# Altium footprint library Inductors.PcbLib: 39 footprints (part 1 of 3)
Each footprint in its own frame and in the unit in brackets; x right, y up, seen from the top. Pads: shape width x height; smd on the part's side, far side on the other; paste and mask are expansions set on the pad; w line width, h text height; cw(c..) or ccw(c..) is an arc to the next point about the centre after c.
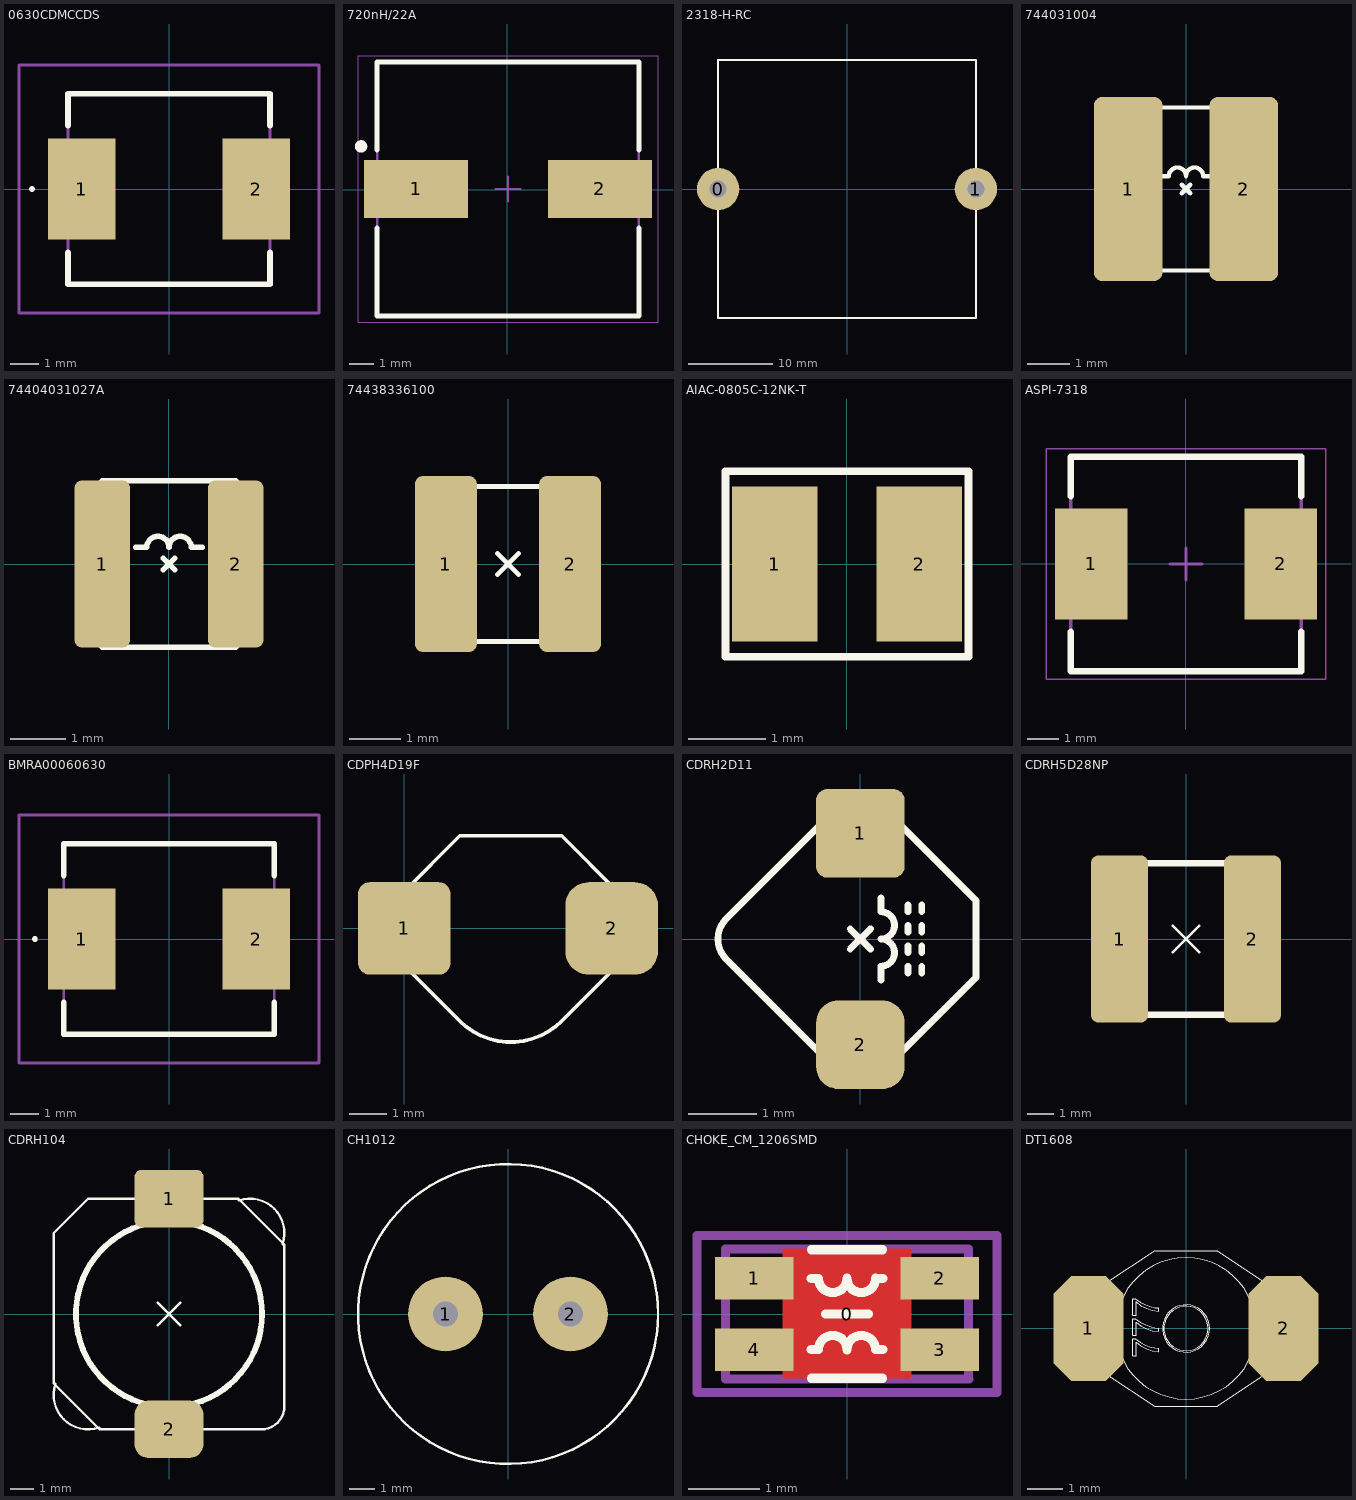
[diagram p0: the footprints below, top view; thin cyan lines are the x and y axes]

## 0630CDMCCDS [mm]
pads (2):
  rect 2.35x3.5 smd: 1(-3.025,0) 2(3.025,0)
Top Overlay:
  lines w0.1: -4.8,0 cw(c-4.75,0) -4.7,0 cw(c-4.75,0) -4.8,0
  lines w0.2: -3.5,-2.2 -3.5,-3.3 3.5,-3.3 3.5,-2.2 ; -3.5,2.2 -3.5,3.3 3.5,3.3 3.5,2.2
Mechanical 13:
  lines w0.1: -3.5,-3.3 -3.5,3.3 3.5,3.3 3.5,-3.3 -3.5,-3.3
Mechanical 15:
  lines w0.1: -5.2,-4.3 -5.2,4.3 5.2,4.3 5.2,-4.3 -5.2,-4.3
3D body "0630CDMCCDS-R24MC.stp": height 3.1, standoff 0, extent -3.965,-3.3 3.965,3.3

## 720nH/22A [mm]
pads (2):
  rect 4.2x2.35 smd: 1(-3.704,0.029) 2(3.746,0.029)
Top Overlay:
  circle w0.25: c-5.929,1.754 r0.125
  lines w0.2: -5.279,-1.546 -5.279,-5.121 5.321,-5.121 5.321,-1.546 ; -5.279,1.604 -5.279,5.179 5.321,5.179 5.321,1.604
Mechanical 13:
  lines w0.1: -5.279,-5.121 -5.279,5.179 5.321,5.179 5.321,-5.121 -5.279,-5.121
Mechanical 15:
  lines w0.05: -6.054,-5.371 -6.054,5.429 6.096,5.429 6.096,-5.371 -6.054,-5.371
  lines w0.1: -0.479,0.029 0.521,0.029 ; 0.021,-0.471 0.021,0.529
3D body "DIOM106102X48N.step": height 4.8, standoff 0, extent -5.499,-5.121 5.541,5.179

## 2318-H-RC [mm] "Fixed Inductors 330uH 15% Horizontal"
pads (2):
  round 5 hole 2: 0(-15.24,0) 1(15.24,0)
Top Overlay:
  lines w0.254: -15.24,-15.24 15.24,-15.24 15.24,15.24 -15.24,15.24 -15.24,-15.24
3D body "2318-H-RC.stp": height 10.7, standoff -17.29, extent -15.392,-15.392 15.393,15.393

## 744031004 [mm]
height 1.65
pads (2):
  rrect25% 1.6x4.3 smd: 1(-1.35,0) 2(1.35,0)
Top Overlay:
  lines w0.1: -0.6,0.3 -0.4,0.3 cw(c-0.2,0.3) 0,0.3 cw(c0.2,0.3) 0.4,0.3 0.6,0.3 ; -0.1,-0.1 0.1,0.1 ; -0.1,0.1 0.1,-0.1 ; -1.9,-1.6 -1.6,-1.9 1.6,-1.9 1.9,-1.6 1.9,1.6 1.6,1.9 -1.6,1.9 -1.9,1.6 -1.9,-1.6
3D body "744031001_Download_STP_WE-TPC-3816_rev1.stp": height 1.65, standoff 0, extent -1.9,-1.9 1.9,1.9

## 74404031027A [mm] "FIXED IND 2.7UH 1.85A 80 MOHM"
height 1.2
pads (2):
  rrect25% 1x3 smd: 1(-1.2,0) 2(1.2,0)
Top Overlay:
  lines w0.1: -0.6,0.3 -0.4,0.3 cw(c-0.2,0.3) 0,0.3 cw(c0.2,0.3) 0.4,0.3 0.6,0.3 ; -0.1,-0.1 0.1,0.1 ; -0.1,0.1 0.1,-0.1 ; -1.5,-1.2 -1.2,-1.5 1.2,-1.5 1.5,-1.2 1.5,1.2 1.2,1.5 -1.2,1.5 -1.5,1.2 -1.5,-1.2
3D body "70255656.stp": height 1, standoff 0, extent -1.501,-1.5 1.501,1.5

## 74438336100 [mm]
height 2
pads (2):
  rrect25% 1.2x3.4 smd: 1(-1.2,0) 2(1.2,0)
Top Overlay:
  lines w0.1: -0.2,-0.2 0.2,0.2 ; -0.2,0.2 0.2,-0.2 ; -1.5,-1.5 1.5,-1.5 1.5,1.5 -1.5,1.5 -1.5,-1.5
Mechanical 13:
  lines w0.076: -1.75,-1.35 -1.75,1.35 ; 1.75,-1.35 1.75,1.35
3D body "INDC3225X250N.STEP": height 2.7, standoff 0, extent -1.7,-1.35 1.7,1.35

## AIAC-0805C-12NK-T [mm] "FIXED IND 12NH 900MA 6.3 MOHM"
pads (2):
  rect 1.1x2 smd: 1(-0.93,0) 2(0.93,0)
Top Overlay:
  lines w0.1: -1.562,-1.194 1.562,-1.194 1.562,1.194 -1.562,1.194 -1.562,-1.194
3D body "AIAC-0805C.STEP": height 2.05, standoff -0.05, extent -1.385,-1.098 1.365,1.1

## ASPI-7318 [mm] "Molded Inductor, 2-Leads, Body 7,25x6,75mm, IPC Medium Density"
height 3
pads (2):
  rect 2.3x3.5 smd: 1(-3,0) 2(3,0)
Top Overlay:
  lines w0.2: -3.65,-2.15 -3.65,-3.4 3.65,-3.4 3.65,-2.15 ; -3.65,2.15 -3.65,3.4 3.65,3.4 3.65,2.15
Mechanical 13:
  lines w0.1: -3.65,-3.4 -3.65,3.4 3.65,3.4 3.65,-3.4 -3.65,-3.4
Mechanical 15:
  lines w0.05: -4.425,-3.65 -4.425,3.65 4.425,3.65 4.425,-3.65 -4.425,-3.65
  lines w0.1: -0.5,0 0.5,0 ; 0,-0.5 0,0.5
3D body "INDM7268X30N.step": height 3, standoff 0, extent -3.87,-3.4 3.87,3.4

## BMRA00060630 [mm] "BMRA00060630"
pads (2):
  rect 2.35x3.5 smd: 1(-3.025,0) 2(3.025,0)
Top Overlay:
  lines w0.1: -4.7,0 cw(c-4.65,0) -4.6,0 cw(c-4.65,0) -4.7,0
  lines w0.2: -3.65,-2.2 -3.65,-3.3 3.65,-3.3 3.65,-2.2 ; -3.65,2.2 -3.65,3.3 3.65,3.3 3.65,2.2
Mechanical 13:
  lines w0.1: -3.65,-3.3 3.65,-3.3 3.65,3.3 -3.65,3.3 -3.65,-3.3
Mechanical 15:
  lines w0.1: -5.2,-4.3 5.2,-4.3 5.2,4.3 -5.2,4.3 -5.2,-4.3
3D body "BMRA000606302R2MA1.stp": height 3.1, standoff 0, extent -3.965,-3.3 3.965,3.3

## CDPH4D19F [mm] "SMD Power Inductor SUMIDA"
height 2
pads (2):
  rrect25% 2.5x2.5 smd: 1(0,0)
  rrect50% 2.5x2.5 smd: 2(5.6,0)
Top Overlay:
  lines w0.1: 5.75,-1 4.25,-2.5 cw(c2.875,-1.125) 1.5,-2.5 0,-1 0,1 1.5,2.5 4.25,2.5 5.75,1 5.75,-1 ; 5.75,-1 5.75,-1

## CDRH2D11 [mm]
height 1.2
pads (2):
  rrect25% 1.3x1.3 smd: 1(0,1.55)
  rrect50% 1.3x1.3 smd: 2(0,-1.55)
Top Overlay:
  lines w0.1: -0.15,-0.15 0.15,0.15 ; -0.15,0.15 0.15,-0.15 ; 0.3,-0.6 0.3,-0.4 ccw(c0.3,-0.2) 0.3,0 ccw(c0.3,0.2) 0.3,0.4 0.3,0.6 ; 0.7,-0.5 0.7,-0.4 ; 0.7,-0.2 0.7,-0.1 ; 0.7,0.1 0.7,0.2 ; 0.7,0.4 0.7,0.5 ; 0.9,-0.5 0.9,-0.4 ; 0.9,-0.2 0.9,-0.1 ; 0.9,0.1 0.9,0.2 ; 0.9,0.4 0.9,0.5 ; -1.968,-0.295 cw(c-1.673,0) -1.968,0.295 -0.495,1.768 0.495,1.768 1.697,0.566 1.697,-0.566 0.495,-1.768 -0.495,-1.768 -1.968,-0.295
3D body "User Library-CDRH2D11HP.step": height 1.1, standoff -0.1, extent -2.334,-2.334 2.334,2.334

## CDRH5D28NP [mm] "FIXED IND 6.2UH 1.8A 45 MOHM SMD"
pads (2):
  rrect25% 2.15x6.3 smd: 1(-2.5,0) 2(2.5,0)
Top Overlay:
  lines w0.1: -0.5,-0.5 0.5,0.5 ; -0.5,0.5 0.5,-0.5
  lines w0.254: -2.85,-2.15 -2.85,2.85 2.15,2.85 2.85,2.15 2.85,-2.85 -2.15,-2.85 -2.85,-2.15
3D body "User Library-cdrh5d28.step": height 2.9, standoff -0.1, extent -3,-3 3,3

## CDRH104 [mm] "10.5  ?  10.3mm Max.(L  ?  W), 4.0mm Max. Height. (CDRH104R)"
height 5
pads (2):
  rrect25% 3x2.5 smd: 1(0,5)
  rrect50% 3x2.5 smd: 2(0,-5)
Top Overlay:
  circle w0.254: c0,0 r4.031
  lines w0.1: -4.923,-3.026 ccw(c-3.5,-3.5) -3.026,-4.923 ; -0.5,-0.5 0.5,0.5 ; -0.5,0.5 0.5,-0.5 ; 3.026,4.923 cw(c3.5,3.5) 4.923,3.026 ; -5,-3 -3,-5 4,-5 ccw(c4,-4) 5,-4 5,3 3,5 -3.5,5 -5,3.5 -5,-3
3D body "User Library-cdrh104r.STEP": height 4, standoff 0, extent -5.15,-5.3 5.15,5.2

## CH1012 [mm]
pads (2):
  round 3 hole 1: 1(-2.5,0) 2(2.5,0)
Top Overlay:
  circle w0.1: c0,0 r6
3D body: height 16.5, standoff 1, extent -6,-6 6,6

## CHOKE_CM_1206SMD [mm] "Common-mode choke, Body 3.4x1.8x2.2mm"
height 2.2
pads (5):
  round 0.5 on Mech15: 0(0,0)
  rrect1% 1.1x0.6 smd: 1(-1.3,0.5) 2(1.3,0.5) 3(1.3,-0.5) 4(-1.3,-0.5)
Top Layer:
  pour cut-out: -0.9,0.91 0.9,0.91 0.9,-0.9 -0.9,-0.9
Top Overlay:
  lines w0.127: -0.5,-0.9 0.5,-0.9 ; -0.5,-0.5 -0.4,-0.5 cw(c-0.2,-0.5) 0,-0.5 cw(c0.2,-0.5) 0.4,-0.5 0.5,-0.5 ; -0.5,0.5 -0.4,0.5 ccw(c-0.2,0.5) 0,0.5 ccw(c0.2,0.5) 0.4,0.5 0.5,0.5 ; -0.5,0.9 0.5,0.9 ; -0.3,0 0.3,0
Mechanical 13:
  lines w0.127: 1.7,-0.91 1.7,0.91 -1.7,0.91 -1.7,-0.91 1.71,-0.91
Mechanical 15:
  lines w0.127: -2.1,-1.1 2.1,-1.1 2.1,1.1 -2.1,1.1 -2.1,-1.1
3D body "Common mode choke - 1206 SMD.STEP": height 2.2, standoff 0, extent -1.71,-0.91 1.71,0.91

## DT1608 [mm] "Inductor, 2-Leads, Body 6,6x4,45mm"
height 2
pads (2):
  oct 2x3 smd: 1(-2.794,0) 2(2.794,0)
Top Overlay:
  circle w0.013: c0,0 r0.675
  circle w0.013: c0,0 r2.02
  circle w0.013: c0,0 r0.635
  lines w0.013: -2.28,-1.304 -0.89,-2.225 0.89,-2.225 2.287,-1.299 ; -2.28,1.304 -0.89,2.225 0.89,2.225 2.287,1.299 ; -3.3,-0.64 -2.28,-1.316 -2.28,1.316 -3.3,0.64 -3.3,-0.64 ; -1.527,-0.777 -1.43,-0.777 -1.43,-0.393 ccw(c-0.712,0.422) -0.786,-0.662 -0.786,-0.566 cw(c-0.731,0.417) -0.99,-0.533 cw(c-0.666,0.662) -1.449,-0.297 -1.527,-0.297 -1.527,-0.777 ; -1.527,-0.201 -1.43,-0.201 -1.43,0.184 ccw(c-0.712,0.999) -0.786,-0.085 -0.786,0.011 cw(c-0.729,1.004) -0.99,0.044 cw(c-0.666,1.238) -1.449,0.28 -1.527,0.28 -1.527,-0.201 ; -1.527,0.376 -1.43,0.376 -1.43,0.761 ccw(c-0.712,1.576) -0.786,0.492 -0.786,0.588 cw(c-0.732,1.565) -0.99,0.621 cw(c-0.666,1.815) -1.449,0.857 -1.527,0.857 -1.527,0.376 ; 2.287,-1.311 2.287,1.311 3.3,0.64 3.3,-0.64 2.287,-1.311
3D body "Coilcraft-DT1608C.step": height 2.91, standoff -0.01, extent -3.3,-2.225 3.3,2.225